# Altium footprint library Zig-Zag-In-Line Package Odd Lead Number.PcbLib: 3 footprints
Each footprint in its own frame and in the unit in brackets; x right, y up, seen from the top. Pads: shape width x height; smd on the part's side, far side on the other; paste and mask are expansions set on the pad; w line width, h text height; cw(c..) or ccw(c..) is an arc to the next point about the centre after c.
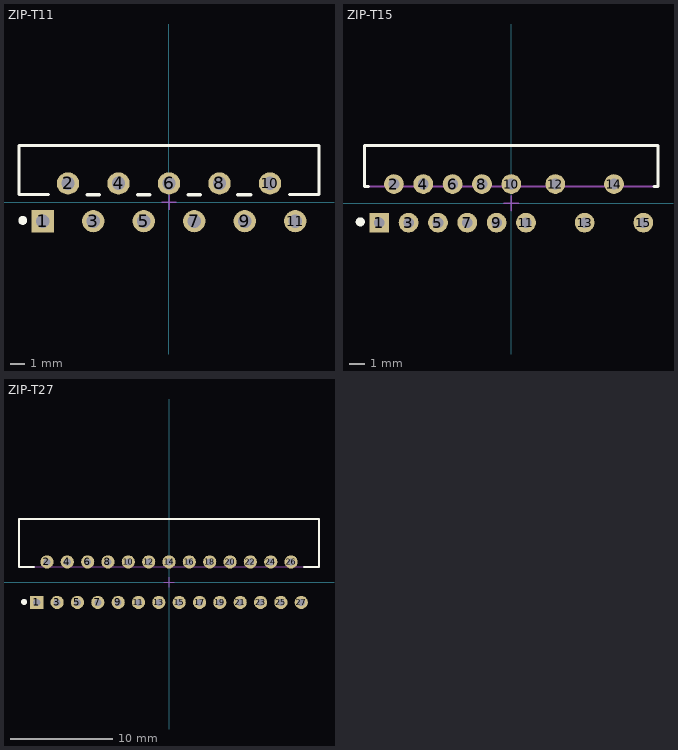
[diagram p0: the footprints below, top view; thin cyan lines are the x and y axes]

## ZIP-T11 [mm] "In-Line; 11 Zig-Zag Leads; Body 20 x 3.25mm; Pitch 1.7 mm"
height 14.4
pads (11):
  rect 1.5x1.5 hole 0.9: 1(-8.5,-1.27)
  round 1.5 hole 0.9: 2(-6.8,1.27) 3(-5.1,-1.27) 4(-3.4,1.27) 5(-1.7,-1.27) 6(0,1.27) 7(1.7,-1.27) 8(3.4,1.27) 9(5.1,-1.27) 10(6.8,1.27) 11(8.5,-1.27)
Top Overlay:
  circle w0.3: c-9.85,-1.22 r0.15
  lines w0.2: -8.1,0.51 -10.1,0.51 -10.1,3.81 10.1,3.81 10.1,0.51 8.1,0.51
  lines w0.254: -5.5,0.51 -4.7,0.51 ; -2.1,0.51 -1.3,0.51 ; 1.3,0.51 2.1,0.51 ; 4.632,0.51 5.5,0.51
Mechanical 15:
  lines w0.1: -0.5,0 0.5,0 ; 0,-0.5 0,0.5

## ZIP-T15 [mm] "In-Line; 15 Zig-Zag Leads; Body 19 x 2.54mm; Pitch 0.965mm"
height 15.5
pads (15):
  rect 1.3x1.3 hole 0.7: 1(-8.685,-1.27)
  round 1.3 hole 0.7: 2(-7.72,1.27) 3(-6.755,-1.27) 4(-5.79,1.27) 5(-4.825,-1.27) 6(-3.86,1.27) 7(-2.895,-1.27) 8(-1.93,1.27) 9(-0.965,-1.27) 10(0,1.27) 11(0.965,-1.27) 12(2.895,1.27) 13(4.825,-1.27) 14(6.755,1.27) 15(8.685,-1.27)
Top Overlay:
  circle w0.3: c-9.935,-1.22 r0.15
  lines w0.2: -9.385,1.11 -9.65,1.11 -9.65,3.81 9.65,3.81 9.65,1.11 9.385,1.11
Mechanical 13:
  lines w0.1: -9.65,1.11 9.65,1.11 9.65,3.81 -9.65,3.81 -9.65,1.11
Mechanical 15:
  lines w0.1: -0.5,0 0.5,0 ; 0,-0.5 0,0.5
3D body: height 15.5, standoff 3.75, extent -9.649,1.111 9.649,3.809

## ZIP-T27 [mm] "In-Line; 27 Zig-Zag Leads; Body 29.2 x 4.5mm; Pitch 1mm"
height 19.3
pads (27):
  rect 1.3x1.3 hole 0.7: 1(-13,-1.99)
  round 1.3 hole 0.7: 2(-12,1.99) 3(-11,-1.99) 4(-10,1.99) 5(-9,-1.99) 6(-8,1.99) 7(-7,-1.99) 8(-6,1.99) 9(-5,-1.99) 10(-4,1.99) 11(-3,-1.99) 12(-2,1.99) 13(-1,-1.99) 14(0,1.99) 15(1,-1.99) 16(2,1.99) 17(3,-1.99) 18(4,1.99) 19(5,-1.99) 20(6,1.99) 21(7,-1.99) 22(8,1.99) 23(9,-1.99) 24(10,1.99) 25(11,-1.99) 26(12,1.99) 27(13,-1.99)
Top Overlay:
  circle w0.3: c-14.25,-1.94 r0.15
  lines w0.2: -13.3,1.51 -14.75,1.51 -14.75,6.21 14.75,6.21 14.75,1.51 13.3,1.51
Mechanical 13:
  lines w0.1: -14.75,1.51 -14.75,6.21 14.75,6.21 14.75,1.51 -14.75,1.51
Mechanical 15:
  lines w0.1: -0.5,0 0.5,0 ; 0,-0.5 0,0.5
3D body: height 19.3, standoff 3.35, extent -14.749,1.511 14.749,6.209